# EAGLE library part HEADER_2X3 (library HEADERS)
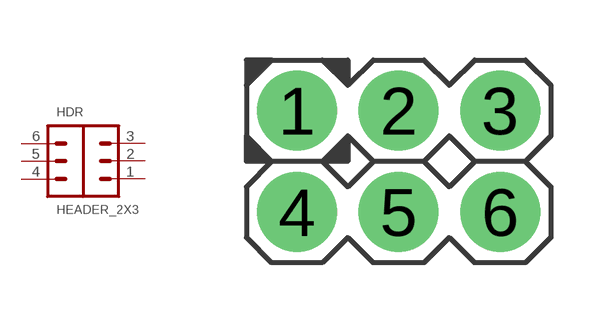
[diagram p2: symbol with the pads of HEADER_2X3; footprint HEADER_2X3]

Designator prefix HDR

## HEADER_2X3  [HEADER_2X3]
1  1  pas
2  2  pas
3  3  pas
4  4  pas
5  5  pas
6  6  pas

## Footprint HEADER_2X3 (pad centres in mm)
drill 1 pad 2: 1 -2.54,1.27; 2 0,1.27; 3 2.54,1.27; 4 -2.54,-1.27; 5 0,-1.27; 6 2.54,-1.27